# Altium footprint library Connectors.PcbLib: 7 footprints
Each footprint in its own frame and in the unit in brackets; x right, y up, seen from the top. Pads: shape width x height; smd on the part's side, far side on the other; paste and mask are expansions set on the pad; w line width, h text height; cw(c..) or ccw(c..) is an arc to the next point about the centre after c.
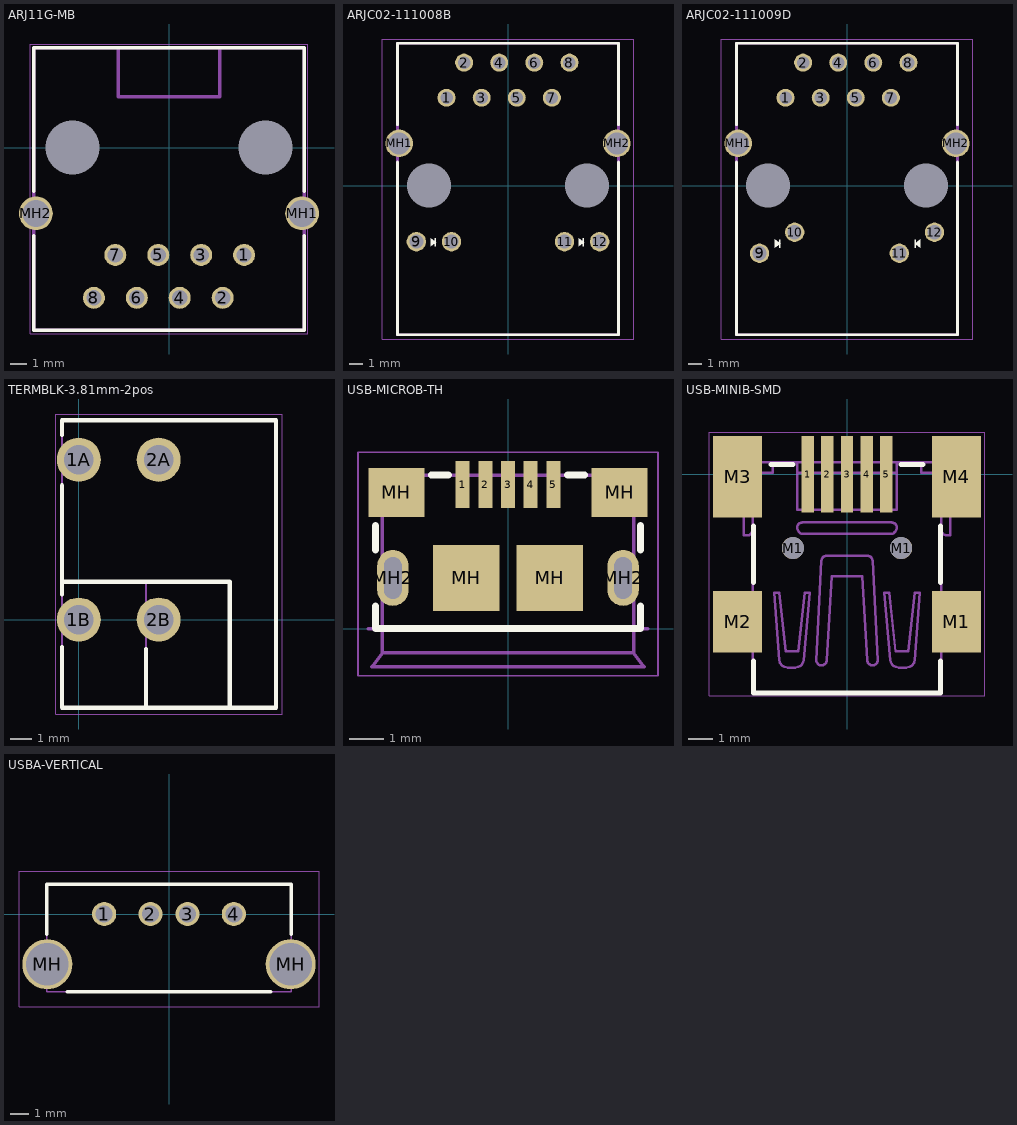
[diagram p0: the footprints below, top view; thin cyan lines are the x and y axes]

## ARJ11G-MB [mm]
pads (12):
  round 1.3 hole 0.9: 1(4.445,-6.35) 2(3.175,-8.89) 3(1.905,-6.35) 4(0.635,-8.89) 5(-0.635,-6.35) 6(-1.905,-8.89) 7(-3.175,-6.35) 8(-4.445,-8.89)
  round 0 hole 3.2 unplated: MH(-5.715,0) MH(5.715,0)
  round 2 hole 1.6: MH1(7.875,-3.89) MH2(-7.875,-3.89)
Top Overlay:
  lines w0.2: -8,-5.2 -8,-10.8 8,-10.8 8,-5.2 ; -8,-2.6 -8,5.9 8,5.9 8,-2.6
Mechanical 13:
  lines w0.2: -3,5.9 -3,3 3,3 3,5.9 ; -8,-10.8 -8,5.9 8,5.9 8,-10.8 -8,-10.8
Mechanical 15:
  lines w0.05: -8.2,-11 -8.2,6.1 8.2,6.1 8.2,-11 -8.2,-11
  text ".Designator" at -4.4,-0.5 h2
3D body "ARJ11G-MBSC-MU2 (1).stp": height 2.85, standoff -17.4, extent -8.05,-10.85 8.05,5.85

## ARJC02-111008B [mm]
pads (16):
  round 1.3 hole 0.9: 1(-4.445,6.35) 2(-3.175,8.89) 3(-1.905,6.35) 4(-0.635,8.89) 5(0.635,6.35) 6(1.905,8.89) 7(3.175,6.35) 8(4.445,8.89)
  round 1.4 hole 1.02: 9(-6.63,-4.06) 10(-4.09,-4.06) 11(4.09,-4.06) 12(6.63,-4.06)
  round 0 hole 3.2 unplated: MH(-5.715,0) MH(5.715,0)
  round 2 hole 1.6: MH1(-7.875,3.05) MH2(7.875,3.05)
Top Overlay:
  region: -5.2,-3.8 -5.3,-3.8 -5.3,-4.4 -5.2,-4.4
  region: 5.5,-3.8 5.4,-3.8 5.4,-4.4 5.5,-4.4
  region: -5.6,-4.4 -5.6,-3.8 -5.2,-4.1
  region: 5.1,-4.4 5.1,-3.8 5.5,-4.1
  lines w0.2: -8,1.7 -8,-10.8 8,-10.8 8,1.7 ; -8,4.4 -8,10.3 8,10.3 8,4.4
Mechanical 13:
  lines w0.2: -8,-10.8 8,-10.8 8,10.3 -8,10.3 -8,-10.8
Mechanical 15:
  lines w0.05: -9.1,-11.1 9.1,-11.1 9.1,10.6 -9.1,10.6 -9.1,-11.1
  text ".Designator" at -4.6,-0.1 h2
3D body "ARJC02-111008B.STEP": height 16.08, standoff -3.69, extent -10.336,-10.801 10.336,10.3

## ARJC02-111009D [mm]
pads (16):
  round 1.3 hole 0.9: 1(-4.445,6.35) 2(-3.175,8.89) 3(-1.905,6.35) 4(-0.635,8.89) 5(0.635,6.35) 6(1.905,8.89) 7(3.175,6.35) 8(4.445,8.89)
  round 1.4 hole 1.02: 9(-6.325,-4.9) 10(-3.785,-3.38) 11(3.785,-4.9) 12(6.325,-3.38)
  round 0 hole 3.2 unplated: MH(-5.715,0) MH(5.715,0)
  round 2 hole 1.6: MH1(-7.875,3.05) MH2(7.875,3.05)
Top Overlay:
  rectangle: 4.9,-4.5 5,-3.9
  region: -4.81,-3.9 -4.91,-3.9 -4.91,-4.5 -4.81,-4.5
  region: 5.3,-4.5 5.3,-3.9 4.9,-4.2
  region: -5.21,-4.5 -5.21,-3.9 -4.81,-4.2
  lines w0.2: -8,1.7 -8,-10.8 8,-10.8 8,1.7 ; -8,4.4 -8,10.3 8,10.3 8,4.4
Mechanical 13:
  lines w0.2: -8,-10.8 8,-10.8 8,10.3 -8,10.3 -8,-10.8
Mechanical 15:
  lines w0.05: -9.1,-11.1 9.1,-11.1 9.1,10.6 -9.1,10.6 -9.1,-11.1
  text ".Designator" at -4.6,-0.1 h2
3D body "ARJC02-111009D.STEP": height 13.46, standoff -3.69, extent -8.05,-10.801 8.05,10.3

## TERMBLK-3.81mm-2pos [mm] "20020303-D021B01LF"
pads (4):
  round 2.1 hole 1.4: 1A(0,7.62) 1B(0,0) 2A(3.81,7.62) 2B(3.81,0)
Top Overlay:
  lines w0.2: -0.8,-1.3 -0.8,-4.2 9.4,-4.2 9.4,9.5 -0.8,9.5 -0.8,8.8 ; -0.8,1.2 -0.8,6.4 ; -0.8,1.8 2.3,1.8 7.2,1.8 7.2,-4.2 ; 3.2,-4.2 3.2,-1.4
Mechanical 13:
  lines w0.1: -0.8,1.8 3.2,1.8 ; 3.2,-4.2 3.2,1.8 ; 7.2,-4.2 7.2,1.8 3.2,1.8 ; -0.8,-4.2 3.9,-4.2 9.41,-4.2 9.41,9.5 -0.8,9.5 -0.8,-4.2
Mechanical 15:
  lines w0.05: -1.1,-4.5 -1.1,9.8 9.7,9.8 9.7,-4.5 -1.1,-4.5
  text ".Designator" at -0.1,2.5 h2
3D body "20020303d021b01lf.stp": height 12.75, standoff -3.35, extent -0.75,-4.2 9.37,9.5

## USB-MICROB-TH [mm] "10118193-0001LF"
pads (11):
  rect 0.4x1.35 smd: 1(-1.3,4.125) 2(-0.65,4.125) 3(0,4.125) 4(0.65,4.125) 5(1.3,4.125)
  rect 1.6x1.4 smd: MH(-3.2,3.9) MH(3.2,3.9)
  rect 1.9x1.9 smd: MH(-1.2,1.45) MH(1.2,1.45)
  oval 0.9x1.6 hole 0.5 slot 1.2 at 90 deg: MH2(-3.3,1.45) MH2(3.3,1.45)
Top Overlay:
  lines w0.2: -3.8,0.65 -3.8,0 3.8,0 3.8,0.65 ; -3.8,2.25 -3.8,2.95 ; -2.2,4.4 -1.7,4.4 ; 1.7,4.4 2.2,4.4 ; 3.8,2.25 3.8,2.95
Mechanical 13:
  lines w0.1: -4,0 4,0 ; -3.6,-0.7 -3.6,4.4 3.6,4.4 3.6,-0.7 ; -3.6,-0.7 3.6,-0.7 ; -3.6,-0.7 -3.9,-1.1 3.9,-1.1 3.6,-0.7
  text "PCB EDGE" at -1.8,0.15 h0.8
Mechanical 15:
  lines w0.05: -4.3,-1.35 4.3,-1.35 4.3,5.05 -4.3,5.05 -4.3,-1.35
  text ".Designator" at -4.1,0.95 h2
3D body "10118193-0001lfc[1].stp": height 2.86, standoff -0.74, extent -3.928,-1.31 3.929,4.35

## USB-MINIB-SMD [mm] "10033526-N3212MLF"
pads (11):
  rect 0.5x3.1 smd: 1(-1.6,0) 2(-0.8,0) 3(0,0) 4(0.8,0) 5(1.6,0)
  round 0.9 hole 0.9: M1(-2.2,-3) M1(2.2,-3)
  rect 2x2.5 smd: M1(4.45,-6) M2(-4.45,-6)
  rect 2x3.3 smd: M3(-4.45,-0.1) M4(4.45,-0.1)
Top Overlay:
  lines w0.2: -3.8,-7.6 -3.8,-8.9 3.8,-8.9 3.8,-7.6 ; -3.8,-4.4 -3.8,-2.1 ; -3.1,0.4 -2.2,0.4 ; 2.2,0.4 3.1,0.4 ; 3.8,-4.4 3.8,-2.1
Mechanical 13:
  lines w0.102: -4.257,-1.287 -4.88,-1.287 -4.88,-0.872 -4.465,-0.872 -4.465,-0.353 -4.88,-0.353 -4.88,0.063 -4.257,0.063 ; -3.841,-7.415 -3.841,-8.918 ; -3.841,-4.582 -3.841,-2.273 ; -3.011,0.426 -3.011,0.063 -3.582,0.063 ccw(c-3.582,-0.197) -3.841,-0.197 -3.841,-2.273 ; -3.011,0.478 -2.025,0.478 ; -2.025,0.426 -2.025,-1.443 1.973,-1.443 ; -1.973,0.063 1.973,0.063 ; 2.025,-1.443 2.025,0.426 ; 2.024,0.478 3.634,0.478 ; 3.011,0.426 3.011,0.063 3.582,0.063 cw(c3.582,-0.197) 3.841,-0.197 3.841,-5.309 4.88,-5.309 4.88,-5.702 4.464,-5.702 4.464,-6.325 4.88,-6.325 4.88,-6.688 3.841,-6.688 3.841,-8.918 ; 3.841,-7.415 3.841,-8.918 ; 3.841,-4.583 3.841,-2.273 ccw(c4.049,-2.273) 4.049,-2.481 4.205,-2.481 4.205,-0.093 ccw(c3.634,-0.093) 3.634,0.478 ; 4.257,-1.287 4.88,-1.287 4.88,-0.872 4.464,-0.872 4.464,-0.353 4.88,-0.353 4.88,0.063 4.257,0.063 ; -3.841,-8.918 -3.841,-6.688 -4.88,-6.688 -4.88,-6.325 -4.465,-6.325 -4.465,-5.702 -4.88,-5.702 -4.88,-5.309 -3.841,-5.309 -3.841,-2.274 ; -3.841,-8.918 3.841,-8.918 ; -3.841,-2.273 cw(c-4.049,-2.273) -4.049,-2.481 -4.205,-2.481 -4.205,-0.093 cw(c-3.634,-0.093) -3.634,0.478 3.634,0.478 ; -2.025,-2.17 ccw(c-1.765,-2.169) -1.765,-2.429 1.765,-2.429 ccw(c1.765,-2.169) 2.024,-2.17 ccw(c1.817,-2.169) 1.817,-1.962 -1.817,-1.962 ccw(c-1.817,-2.169) -2.025,-2.169 ; -2.025,-2.17 -2.025,-2.169 ; -2.959,-4.817 -2.751,-4.817 -2.492,-7.205 -1.973,-7.205 -1.713,-4.817 -1.505,-4.817 -1.765,-7.568 cw(c-2.059,-7.546) -1.973,-7.828 cw(c-2.258,-6.897) -2.544,-7.828 cw(c-2.457,-7.546) -2.751,-7.568 -2.959,-4.817 ; -1.246,-7.568 ccw(c-1.038,-7.569) -1.038,-7.776 -1.038,-7.776 ccw(c-1.038,-7.569) -0.831,-7.568 -0.623,-4.142 0.623,-4.142 0.83,-7.568 ccw(c1.038,-7.568) 1.038,-7.776 ccw(c1.038,-7.569) 1.246,-7.568 1.038,-3.519 ccw(c0.818,-3.531) 0.83,-3.312 -0.831,-3.312 ccw(c-0.819,-3.531) -1.038,-3.519 -1.246,-7.568 ; 1.505,-4.817 1.713,-4.817 1.973,-7.205 2.492,-7.205 2.751,-4.817 2.959,-4.817 2.751,-7.568 cw(c2.457,-7.546) 2.544,-7.828 cw(c2.258,-6.897) 1.973,-7.828 cw(c2.059,-7.546) 1.765,-7.568 1.505,-4.817
Mechanical 15:
  lines w0.05: -5.6,-9 5.6,-9 5.6,1.7 -5.6,1.7 -5.6,-9
  text ".Designator" at -4.7,-5.5 h2
3D body "10033526-n3212mlfc.stp": height 3.95, standoff -0.95, extent -4.95,-8.818 4.95,0.506

## USBA-VERTICAL [mm]
pads (6):
  round 1.3 hole 0.92: 1(-3.5,0) 2(-1,0) 3(1,0) 4(3.5,0)
  round 2.7 hole 2.3: MH(-6.57,-2.71) MH(6.57,-2.71)
Top Overlay:
  lines w0.2: -6.6,-1.1 -6.6,1.6 6.6,1.6 6.6,-1.1 ; -5.5,-4.2 5.5,-4.2
Mechanical 13:
  lines w0.1: -6.6,-4.2 6.6,-4.2 6.6,1.6 -6.6,1.6 -6.6,-4.2
Mechanical 15:
  lines w0.05: -8.1,-5 -8.1,2.3 8.1,2.3 8.1,-5 -8.1,-5
  text ".Designator" at -4.4,-0.5 h2
3D body "c-1734366-3-c1-3d[1].stp": height 15.1, standoff -3.83, extent -7.9,-4.86 7.9,2.26